# Altium schematic symbol library Filters.SchLib: 9 symbols
Pins are listed as number, name and electrical type; pins without a type are passive.

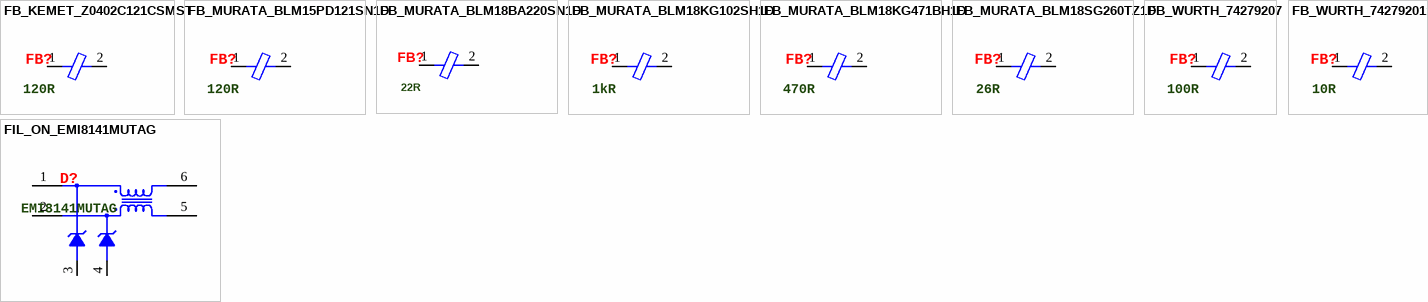
[diagram p0: symbols FB_KEMET_Z0402C121CSMST to FIL_ON_EMI8141MUTAG]

## FB_KEMET_Z0402C121CSMST
designator FB?, comment 120R
Ferrite Bead 120 Ohms @ 100 MHz 1 Signal Line 0402 (1005 Metric) 350mA 450mOhm; Manufacturer: KEMET; Manufacturer Part Number: Z0402C121CSMST; Tolerance: 25%; DC Resistance (DCR): 450mR; Frequency: 100MHz; Category: Ferrite Beads and Chips; Case/Package: 0402; Min Operating Temperature: -55°C; Max Operating Temperature: 125°C; Impedance: 120R; RoHS Compliant: Yes; ComponentLink1URL: https://api.kemet.com/component-edge/download/datasheet/Z0402C121CSMST.pdf; ComponentLink1Description: Datasheet; Current Rating: 350mA; Supplier 1: Digi-Key; Supplier Part Number 1: 399-Z0402C121CSMSTCT-ND; Supplier 2: Mouser; Supplier Part Number 2: 80-Z0402C121CSMST
footprint INDC1005X55N (Chip Inductor, EIA 0402, Metric 1005, Body 1.00x0.50mm, IPC Medium Density)
footprint INDC1005X55M (Chip Inductor, EIA 0402, Metric 1005, Body 1.00x0.50mm, IPC Low Density)
footprint INDC1005X55L (Chip Inductor, EIA 0402, Metric 1005, Body 1.00x0.50mm, IPC High Density)
simulation model BLM15BC121SN1 (Model Description)
pins: 1, 2

## FB_MURATA_BLM15PD121SN1D
designator FB?, comment 120R
Ferrite Bead 120 Ohms @ 100 MHz 1 Power Line 0402 (1005 Metric) 1.3A 90mOhm; Manufacturer: Murata; Manufacturer Part Number: BLM15PD121SN1D; Tolerance: 25%; DC Resistance (DCR): 90mR; Frequency: 100MHz; Category: Ferrite Beads and Chips; Case/Package: 0402; Min Operating Temperature: -55°C; Max Operating Temperature: 125°C; Impedance: 120R; Current Rating: 1.3A; RoHS Compliant: Yes; ComponentLink1URL: https://www.murata.com/en-us/products/productdata/8796740059166/ENFA0018.pdf; ComponentLink1Description: Datasheet; Supplier 1: Digi-Key; Supplier Part Number 1: 490-5203-1-ND; Supplier 2: Mouser; Supplier Part Number 2: 81-BLM15PD121SN1D
footprint INDC1005X55N (Chip Inductor, EIA 0402, Metric 1005, Body 1.00x0.50mm, IPC Medium Density)
footprint INDC1005X55L (Chip Inductor, EIA 0402, Metric 1005, Body 1.00x0.50mm, IPC High Density)
footprint INDC1005X55M (Chip Inductor, EIA 0402, Metric 1005, Body 1.00x0.50mm, IPC Low Density)
simulation model BLM15PD121SN1 (Model Description)
pins: 1, 2

## FB_MURATA_BLM18BA220SN1D
designator FB?, comment 22R
Ferrite Bead 22 Ohms @ 100 MHz 1 Signal Line 0603 (1608 Metric) 500mA 350mOhm; Manufacturer: Murata; Manufacturer Part Number: BLM18BA220SN1D; Tolerance: 25%; DC Resistance (DCR): 350mR; Frequency: 100MHz; Category: Ferrite Beads and Chips; Min Operating Temperature: -55°C; Max Operating Temperature: 125°C; Impedance: 22R; Current Rating: 500mA; RoHS Compliant: Yes; ComponentLink1URL: https://www.murata.com/en-us/products/productdata/8796738650142/ENFA0003.pdf; ComponentLink1Description: Datasheet; Supplier 1: Digi-Key; Supplier Part Number 1: 490-1016-1-ND; Supplier 2: Mouser; Supplier Part Number 2: 81-BLM18BA220SN1D; Case/Package: 0603
footprint INDC1608X95N (Chip Inductor, EIA 0603, Metric 1608, Body 1.60x0.80mm, IPC Medium Density)
footprint INDC1608X95M (Chip Inductor, EIA 0603, Metric 1608, Body 1.60x0.80mm, IPC Low Density)
footprint INDC1608X95L (Chip Inductor, EIA 0603, Metric 1608, Body 1.60x0.80mm, IPC High Density)
simulation model BLM18BA220SN1 (Model Description)
pins: 1, 2

## FB_MURATA_BLM18KG102SH1D
designator FB?, comment 1kR
Ferrite Bead 1 kOhms @ 100 MHz 1 Power Line 0603 (1608 Metric) 1A 200mOhm; Manufacturer: Murata; Manufacturer Part Number: BLM18KG102SH1D; DC Resistance (DCR): 200mR; Frequency: 100MHz; Tolerance: 25%; Category: Ferrite Beads and Chips; Case/Package: 0603; Min Operating Temperature: -55°C; Max Operating Temperature: 150°C; RoHS Compliant: Yes; ComponentLink1URL: https://www.murata.com/en-us/products/productdata/8798137286686/QNFA9129.pdf; ComponentLink1Description: Datasheet; Current Rating: 1A; Impedance: 1kR; Supplier 1: Digi-Key; Supplier Part Number 1: 490-17348-1-ND; Supplier 2: Mouser; Supplier Part Number 2: 81-BLM18KG102SH1D
footprint INDC1608X95N (Chip Inductor, EIA 0603, Metric 1608, Body 1.60x0.80mm, IPC Medium Density)
footprint INDC1608X95L (Chip Inductor, EIA 0603, Metric 1608, Body 1.60x0.80mm, IPC High Density)
footprint INDC1608X95M (Chip Inductor, EIA 0603, Metric 1608, Body 1.60x0.80mm, IPC Low Density)
simulation model BLM18KG102SZ1 (Model Description)
pins: 1, 2

## FB_MURATA_BLM18KG471BH1D
designator FB?, comment 470R
Ferrite Bead 470 Ohms @ 100 MHz 1 Power Line 0603 (1608 Metric) 1A 130mOhm; Manufacturer: Murata; Manufacturer Part Number: BLM18KG471BH1D; DC Resistance (DCR): 130mR; Frequency: 100MHz; Tolerance: 25%; Category: Ferrite Beads and Chips; Case/Package: 0603; Min Operating Temperature: -55°C; Max Operating Temperature: 150°C; RoHS Compliant: Yes; ComponentLink1URL: https://www.murata.com/en-us/products/productdata/8798137286686/QNFA9129.pdf; ComponentLink1Description: Datasheet; Current Rating: 1A; Impedance: 470R; Supplier 1: Digi-Key; Supplier Part Number 1: 490-14031-1-ND; Supplier 2: Mouser; Supplier Part Number 2: 81-BLM18KG471BH1D
footprint INDC1608X95N (Chip Inductor, EIA 0603, Metric 1608, Body 1.60x0.80mm, IPC Medium Density)
footprint INDC1608X95L (Chip Inductor, EIA 0603, Metric 1608, Body 1.60x0.80mm, IPC High Density)
footprint INDC1608X95M (Chip Inductor, EIA 0603, Metric 1608, Body 1.60x0.80mm, IPC Low Density)
simulation model BLM18KG471SZ1 (Model Description)
pins: 1, 2

## FB_MURATA_BLM18SG260TZ1D
designator FB?, comment 26R
Ferrite Bead 26 Ohms @ 100 MHz 1 Power Line 0603 (1608 Metric) 6A 7mOhm; Manufacturer: Murata; Manufacturer Part Number: BLM18SG260TZ1D; Tolerance: 25%; Current Rating: 6A @ 85C - 1A @ 125C; DC Resistance (DCR): 7mR; Frequency: 100MHz; Category: Ferrite Beads and Chips; ComponentLink1URL: https://www.murata.com/en-us/products/productdata/8796750610462/QNFA9122.pdf; ComponentLink1Description: Datasheet; Min Operating Temperature: -55°C; Impedance: 26R; Max Operating Temperature: 125°C; RoHS Compliant: Yes; Supplier 1: Mouser; Supplier Part Number 1: 81-BLM18SG260TZ1D; Case/Package: 0603
footprint INDC1608X95N (Chip Inductor, EIA 0603, Metric 1608, Body 1.60x0.80mm, IPC Medium Density)
footprint INDC1608X95M (Chip Inductor, EIA 0603, Metric 1608, Body 1.60x0.80mm, IPC Low Density)
footprint INDC1608X95L (Chip Inductor, EIA 0603, Metric 1608, Body 1.60x0.80mm, IPC High Density)
simulation model BLM18SG260TZ1 (Model Description)
pins: 1, 2

## FB_WURTH_74279207
designator FB?, comment 100R
Ferrite Bead 100 Ohms @ 100 MHz 1 Signal Line 0805 (2012 Metric) 1A 150mOhm; Manufacturer: Wurth Electronics; Manufacturer Part Number: 74279207; DC Resistance (DCR): 150mR; Tolerance: 25%; Frequency: 100MHz; Category: Ferrite Beads and Chips; Case/Package: 0805; Min Operating Temperature: -55°C; Max Operating Temperature: 125°C; Current Rating: 1A; Impedance: 100R; RoHS Compliant: Yes; ComponentLink1URL: https://www.we-online.com/katalog/datasheet/74279207.pdf; ComponentLink1Description: Datasheet; Supplier 1: Digi-Key; Supplier Part Number 1: 732-4624-1-ND; Supplier 2: Mouser; Supplier Part Number 2: 710-74279207
simulation model 0805_74279207_100ohm (Model Description)
footprint INDC2012X11N (Chip Inductor, EIA 0805, Metric 2012, Body 2.00x1.20mm, IPC Medium Density)
footprint INDC2012X11L (Chip Inductor, EIA 0805, Metric 2012, Body 2.00x1.20mm, IPC High Density)
footprint INDC2012X11M (Chip Inductor, EIA 0805, Metric 2012, Body 2.00x1.20mm, IPC Low Density)
pins: 1, 2

## FB_WURTH_742792011
designator FB?, comment 10R
Ferrite Bead 10 Ohms @ 100 MHz 1 Signal Line 0805 (2012 Metric) 3A 25mOhm; Manufacturer: Wurth Electronics; Manufacturer Part Number: 742792011; Tolerance: 25%; DC Resistance (DCR): 25mR; Frequency: 100MHz; Category: Ferrite Beads and Chips; Case/Package: 0805; Min Operating Temperature: -55°C; Max Operating Temperature: 125°C; Current Rating: 3A; Impedance: 10R; RoHS Compliant: Yes; ComponentLink1URL: https://www.we-online.com/katalog/datasheet/742792011.pdf; ComponentLink1Description: Datasheet; Supplier 1: Digi-Key; Supplier Part Number 1: 732-4635-1-ND; Supplier 2: Mouser; Supplier Part Number 2: 710-742792011
simulation model 0805_742792011_10ohm (Model Description)
footprint INDC2012X11N (Chip Inductor, EIA 0805, Metric 2012, Body 2.00x1.20mm, IPC Medium Density)
footprint INDC2012X11L (Chip Inductor, EIA 0805, Metric 2012, Body 2.00x1.20mm, IPC High Density)
footprint INDC2012X11M (Chip Inductor, EIA 0805, Metric 2012, Body 2.00x1.20mm, IPC Low Density)
pins: 1, 2

## FIL_ON_EMI8141MUTAG
designator D?, comment EMI8141MUTAG
Common Mode Choke 2 Line Surface Mount 100mA DCR 6Ohm (Typ); Manufacturer: ON Semiconductor; Number of Lines: 2; DC Resistance (DCR): 6R; Manufacturer Part Number: EMI8141MUTAG; Category: Common Mode Chokes; Case/Package: 6-XFDFN; Min Operating Temperature: -40°C; Max Operating Temperature: 85°C; RoHS Compliant: Yes; ComponentLink1URL: https://www.onsemi.com/pdf/datasheet/emi8141-d.pdf; ComponentLink1Description: Datasheet; Current Rating: 100mA; Supplier 1: Digi-Key; Supplier Part Number 1: EMI8141MUTAGOSCT-ND; Supplier 2: Mouser; Supplier Part Number 2: 863-EMI8141MUTAG
footprint FIL_EMI8141MUTAG (2 Line Common Mode Choke Surface Mount 100mA DCR 6Ohm (Typ))
simulation model EMI8141MUTAG (Model Description)
pins: 1 IN_1+, 2 IN_1-, 3 GND, 4 GND, 5 OUT_1-, 6 OUT_1+